# Altium integrated library Microchip PIC32MZ.IntLib: 125 symbols (part 14 of 16)
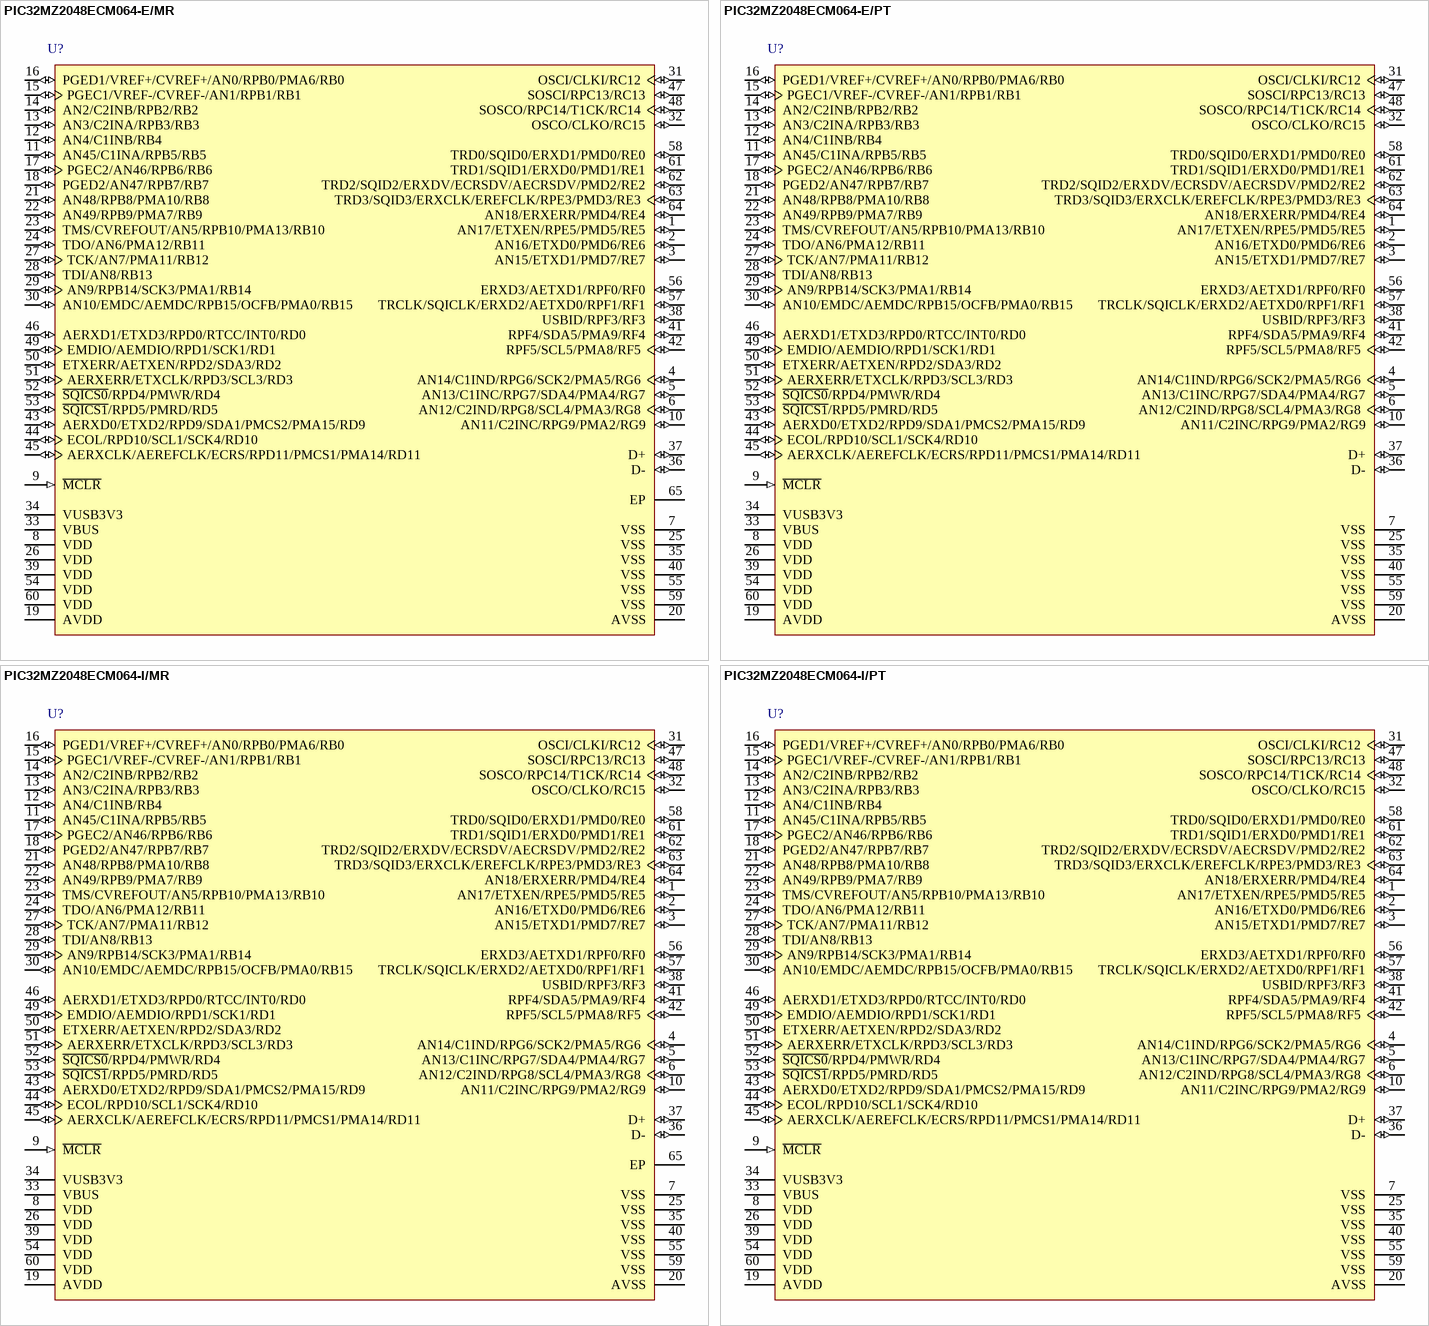
[diagram p65: symbols PIC32MZ2048ECM064-E/MR to PIC32MZ2048ECM064-I/PT]

## PIC32MZ2048ECM064-I/MR
designator U?
32-Bit Microcontroller with Audio and Graphics Interfaces, HS USB, Ethernet, and Advanced Analog, 2048 KB Program Memory, 53 I/O Pins, PMP, Industrial Temperature, 64-Pin QFN (MR64), Tray; Manufacturer: Microchip; PartNumber: PIC32MZ2048ECM064-I/MR; VCC Range: 2.2 to 3.6 V; DatasheetVersion: Rev. B; PackageVersion: C04-149C; PackageReference: QFN-MR64; PackageDescription: 64-Lead Plastic Quad Flat, No Lead Package, 9 x 9 mm Body, 0.5 mm Pitch; Supplier 1: Digi-Key; Supplier Part Number 1: PIC32MZ2048ECM064-I/MR-ND; Packing: Tray; Mounting Technology: Surface Mount; ComponentLink1Description: Manufacturer URL; ComponentLink1URL: http://www.microchip.com/; ComponentLink2Description: Datasheet; ComponentLink2URL: http://ww1.microchip.com/downloads/en/DeviceDoc/60001191B.pdf; ComponentLink3Description: Package Specification; ComponentLink3URL: http://ww1.microchip.com/downloads/en/DeviceDoc/60001191B.pdf
footprint MCHP-QFN-MR64-7150X7150TP_V (QFN, 64-Leads, Body 9x9mm, Pitch 0.5mm, Thermal Pad 7.15X7.15mm)
pins: 1 AN17/ETXEN/RPE5/PMD5/RE5 (io), 2 AN16/ETXD0/PMD6/RE6 (io), 3 AN15/ETXD1/PMD7/RE7 (io), 4 AN14/C1IND/RPG6/SCK2/PMA5/RG6 (io), 5 AN13/C1INC/RPG7/SDA4/PMA4/RG7 (io), 6 AN12/C2IND/RPG8/SCL4/PMA3/RG8 (io), 7 VSS (power) "Ground reference for logic, I/O pins, and USB. This pin must be connected at all times.", 8 VDD (power) "Positive supply for peripheral logic and I/O pins. This pin must be connected at all times.", 9 ~{MCLR} (in) "Master Clear (Reset) input. This pin is an active-low Reset to the device.", 10 AN11/C2INC/RPG9/PMA2/RG9 (io), 11 AN45/C1INA/RPB5/RB5 (io), 12 AN4/C1INB/RB4 (io), 13 AN3/C2INA/RPB3/RB3 (io), 14 AN2/C2INB/RPB2/RB2 (io), 15 PGEC1/VREF-/CVREF-/AN1/RPB1/RB1 (io), 16 PGED1/VREF+/CVREF+/AN0/RPB0/PMA6/RB0 (io), 17 PGEC2/AN46/RPB6/RB6 (io), 18 PGED2/AN47/RPB7/RB7 (io), 19 AVDD (power) "Positive supply for analog modules. This pin must be connected at all times.", 20 AVSS (power) "Ground reference for analog modules. This pin must be connected at all times.", 21 AN48/RPB8/PMA10/RB8 (io), 22 AN49/RPB9/PMA7/RB9 (io), 23 TMS/CVREFOUT/AN5/RPB10/PMA13/RB10 (io), 24 TDO/AN6/PMA12/RB11 (io), 25 VSS (power) "Ground reference for logic, I/O pins, and USB. This pin must be connected at all times.", 26 VDD (power) "Positive supply for peripheral logic and I/O pins. This pin must be connected at all times.", 27 TCK/AN7/PMA11/RB12 (io), 28 TDI/AN8/RB13 (io), 29 AN9/RPB14/SCK3/PMA1/RB14 (io), 30 AN10/EMDC/AEMDC/RPB15/OCFB/PMA0/RB15 (io), 31 OSCI/CLKI/RC12 (io), 32 OSCO/CLKO/RC15 (io), 33 VBUS (power) "USB bus power monitor", 34 VUSB3V3 (power) "USB internal transceiver supply. If the USB module is not used, this pin must be connected to VSS.", 35 VSS (power) "Ground reference for logic, I/O pins, and USB. This pin must be connected at all times.", 36 D- (io) "USB D-", 37 D+ (io) "USB D+", 38 USBID/RPF3/RF3 (io), 39 VDD (power) "Positive supply for peripheral logic and I/O pins. This pin must be connected at all times.", 40 VSS (power) "Ground reference for logic, I/O pins, and USB. This pin must be connected at all times.", 41 RPF4/SDA5/PMA9/RF4 (io), 42 RPF5/SCL5/PMA8/RF5 (io), 43 AERXD0/ETXD2/RPD9/SDA1/PMCS2/PMA15/RD9 (io), 44 ECOL/RPD10/SCL1/SCK4/RD10 (io), 45 AERXCLK/AEREFCLK/ECRS/RPD11/PMCS1/PMA14/RD11 (io), 46 AERXD1/ETXD3/RPD0/RTCC/INT0/RD0 (io), 47 SOSCI/RPC13/RC13 (io), 48 SOSCO/RPC14/T1CK/RC14 (io), 49 EMDIO/AEMDIO/RPD1/SCK1/RD1 (io), 50 ETXERR/AETXEN/RPD2/SDA3/RD2 (io), 51 AERXERR/ETXCLK/RPD3/SCL3/RD3 (io), 52 ~{SQICS0}/RPD4/PMWR/RD4 (io), 53 ~{SQICS1}/RPD5/PMRD/RD5 (io), 54 VDD (power) "Positive supply for peripheral logic and I/O pins. This pin must be connected at all times.", 55 VSS (power) "Ground reference for logic, I/O pins, and USB. This pin must be connected at all times.", 56 ERXD3/AETXD1/RPF0/RF0 (io), 57 TRCLK/SQICLK/ERXD2/AETXD0/RPF1/RF1 (io), 58 TRD0/SQID0/ERXD1/PMD0/RE0 (io), 59 VSS (power) "Ground reference for logic, I/O pins, and USB. This pin must be connected at all times.", 60 VDD (power) "Positive supply for peripheral logic and I/O pins. This pin must be connected at all times.", 61 TRD1/SQID1/ERXD0/PMD1/RE1 (io), 62 TRD2/SQID2/ERXDV/ECRSDV/AECRSDV/PMD2/RE2 (io), 63 TRD3/SQID3/ERXCLK/EREFCLK/RPE3/PMD3/RE3 (io), 64 AN18/ERXERR/PMD4/RE4 (io), 65 EP (power)

## PIC32MZ2048ECM064-I/PT
designator U?
32-Bit Microcontroller with Audio and Graphics Interfaces, HS USB, Ethernet, and Advanced Analog, 2048 KB Program Memory, 53 I/O Pins, PMP, Industrial Temperature, 64-Pin QFP (PT64), Tray; Manufacturer: Microchip; PartNumber: PIC32MZ2048ECM064-I/PT; VCC Range: 2.2 to 3.6 V; DatasheetVersion: Rev. B; PackageVersion: C04-085B; PackageReference: QFP-PT64; PackageDescription: 64-Lead Plastic Thin Quad Flatpack, 10 x 10 mm Body, 0.5 mm Pitch; Supplier 1: Digi-Key; Supplier Part Number 1: PIC32MZ2048ECM064-I/PT-ND; Packing: Tray; Mounting Technology: Surface Mount; ComponentLink1Description: Manufacturer URL; ComponentLink1URL: http://www.microchip.com/; ComponentLink2Description: Datasheet; ComponentLink2URL: http://ww1.microchip.com/downloads/en/DeviceDoc/60001191B.pdf; ComponentLink3Description: Package Specification; ComponentLink3URL: http://ww1.microchip.com/downloads/en/DeviceDoc/60001191B.pdf
footprint MCHP-QFP-PT64_V (QFP, 64-Leads, Body 10x10mm, Pitch 0.5mm)
pins: 1 AN17/ETXEN/RPE5/PMD5/RE5 (io), 2 AN16/ETXD0/PMD6/RE6 (io), 3 AN15/ETXD1/PMD7/RE7 (io), 4 AN14/C1IND/RPG6/SCK2/PMA5/RG6 (io), 5 AN13/C1INC/RPG7/SDA4/PMA4/RG7 (io), 6 AN12/C2IND/RPG8/SCL4/PMA3/RG8 (io), 7 VSS (power) "Ground reference for logic, I/O pins, and USB. This pin must be connected at all times.", 8 VDD (power) "Positive supply for peripheral logic and I/O pins. This pin must be connected at all times.", 9 ~{MCLR} (in) "Master Clear (Reset) input. This pin is an active-low Reset to the device.", 10 AN11/C2INC/RPG9/PMA2/RG9 (io), 11 AN45/C1INA/RPB5/RB5 (io), 12 AN4/C1INB/RB4 (io), 13 AN3/C2INA/RPB3/RB3 (io), 14 AN2/C2INB/RPB2/RB2 (io), 15 PGEC1/VREF-/CVREF-/AN1/RPB1/RB1 (io), 16 PGED1/VREF+/CVREF+/AN0/RPB0/PMA6/RB0 (io), 17 PGEC2/AN46/RPB6/RB6 (io), 18 PGED2/AN47/RPB7/RB7 (io), 19 AVDD (power) "Positive supply for analog modules. This pin must be connected at all times.", 20 AVSS (power) "Ground reference for analog modules. This pin must be connected at all times.", 21 AN48/RPB8/PMA10/RB8 (io), 22 AN49/RPB9/PMA7/RB9 (io), 23 TMS/CVREFOUT/AN5/RPB10/PMA13/RB10 (io), 24 TDO/AN6/PMA12/RB11 (io), 25 VSS (power) "Ground reference for logic, I/O pins, and USB. This pin must be connected at all times.", 26 VDD (power) "Positive supply for peripheral logic and I/O pins. This pin must be connected at all times.", 27 TCK/AN7/PMA11/RB12 (io), 28 TDI/AN8/RB13 (io), 29 AN9/RPB14/SCK3/PMA1/RB14 (io), 30 AN10/EMDC/AEMDC/RPB15/OCFB/PMA0/RB15 (io), 31 OSCI/CLKI/RC12 (io), 32 OSCO/CLKO/RC15 (io), 33 VBUS (power) "USB bus power monitor", 34 VUSB3V3 (power) "USB internal transceiver supply. If the USB module is not used, this pin must be connected to VSS.", 35 VSS (power) "Ground reference for logic, I/O pins, and USB. This pin must be connected at all times.", 36 D- (io) "USB D-", 37 D+ (io) "USB D+", 38 USBID/RPF3/RF3 (io), 39 VDD (power) "Positive supply for peripheral logic and I/O pins. This pin must be connected at all times.", 40 VSS (power) "Ground reference for logic, I/O pins, and USB. This pin must be connected at all times.", 41 RPF4/SDA5/PMA9/RF4 (io), 42 RPF5/SCL5/PMA8/RF5 (io), 43 AERXD0/ETXD2/RPD9/SDA1/PMCS2/PMA15/RD9 (io), 44 ECOL/RPD10/SCL1/SCK4/RD10 (io), 45 AERXCLK/AEREFCLK/ECRS/RPD11/PMCS1/PMA14/RD11 (io), 46 AERXD1/ETXD3/RPD0/RTCC/INT0/RD0 (io), 47 SOSCI/RPC13/RC13 (io), 48 SOSCO/RPC14/T1CK/RC14 (io), 49 EMDIO/AEMDIO/RPD1/SCK1/RD1 (io), 50 ETXERR/AETXEN/RPD2/SDA3/RD2 (io), 51 AERXERR/ETXCLK/RPD3/SCL3/RD3 (io), 52 ~{SQICS0}/RPD4/PMWR/RD4 (io), 53 ~{SQICS1}/RPD5/PMRD/RD5 (io), 54 VDD (power) "Positive supply for peripheral logic and I/O pins. This pin must be connected at all times.", 55 VSS (power) "Ground reference for logic, I/O pins, and USB. This pin must be connected at all times.", 56 ERXD3/AETXD1/RPF0/RF0 (io), 57 TRCLK/SQICLK/ERXD2/AETXD0/RPF1/RF1 (io), 58 TRD0/SQID0/ERXD1/PMD0/RE0 (io), 59 VSS (power) "Ground reference for logic, I/O pins, and USB. This pin must be connected at all times.", 60 VDD (power) "Positive supply for peripheral logic and I/O pins. This pin must be connected at all times.", 61 TRD1/SQID1/ERXD0/PMD1/RE1 (io), 62 TRD2/SQID2/ERXDV/ECRSDV/AECRSDV/PMD2/RE2 (io), 63 TRD3/SQID3/ERXCLK/EREFCLK/RPE3/PMD3/RE3 (io), 64 AN18/ERXERR/PMD4/RE4 (io)

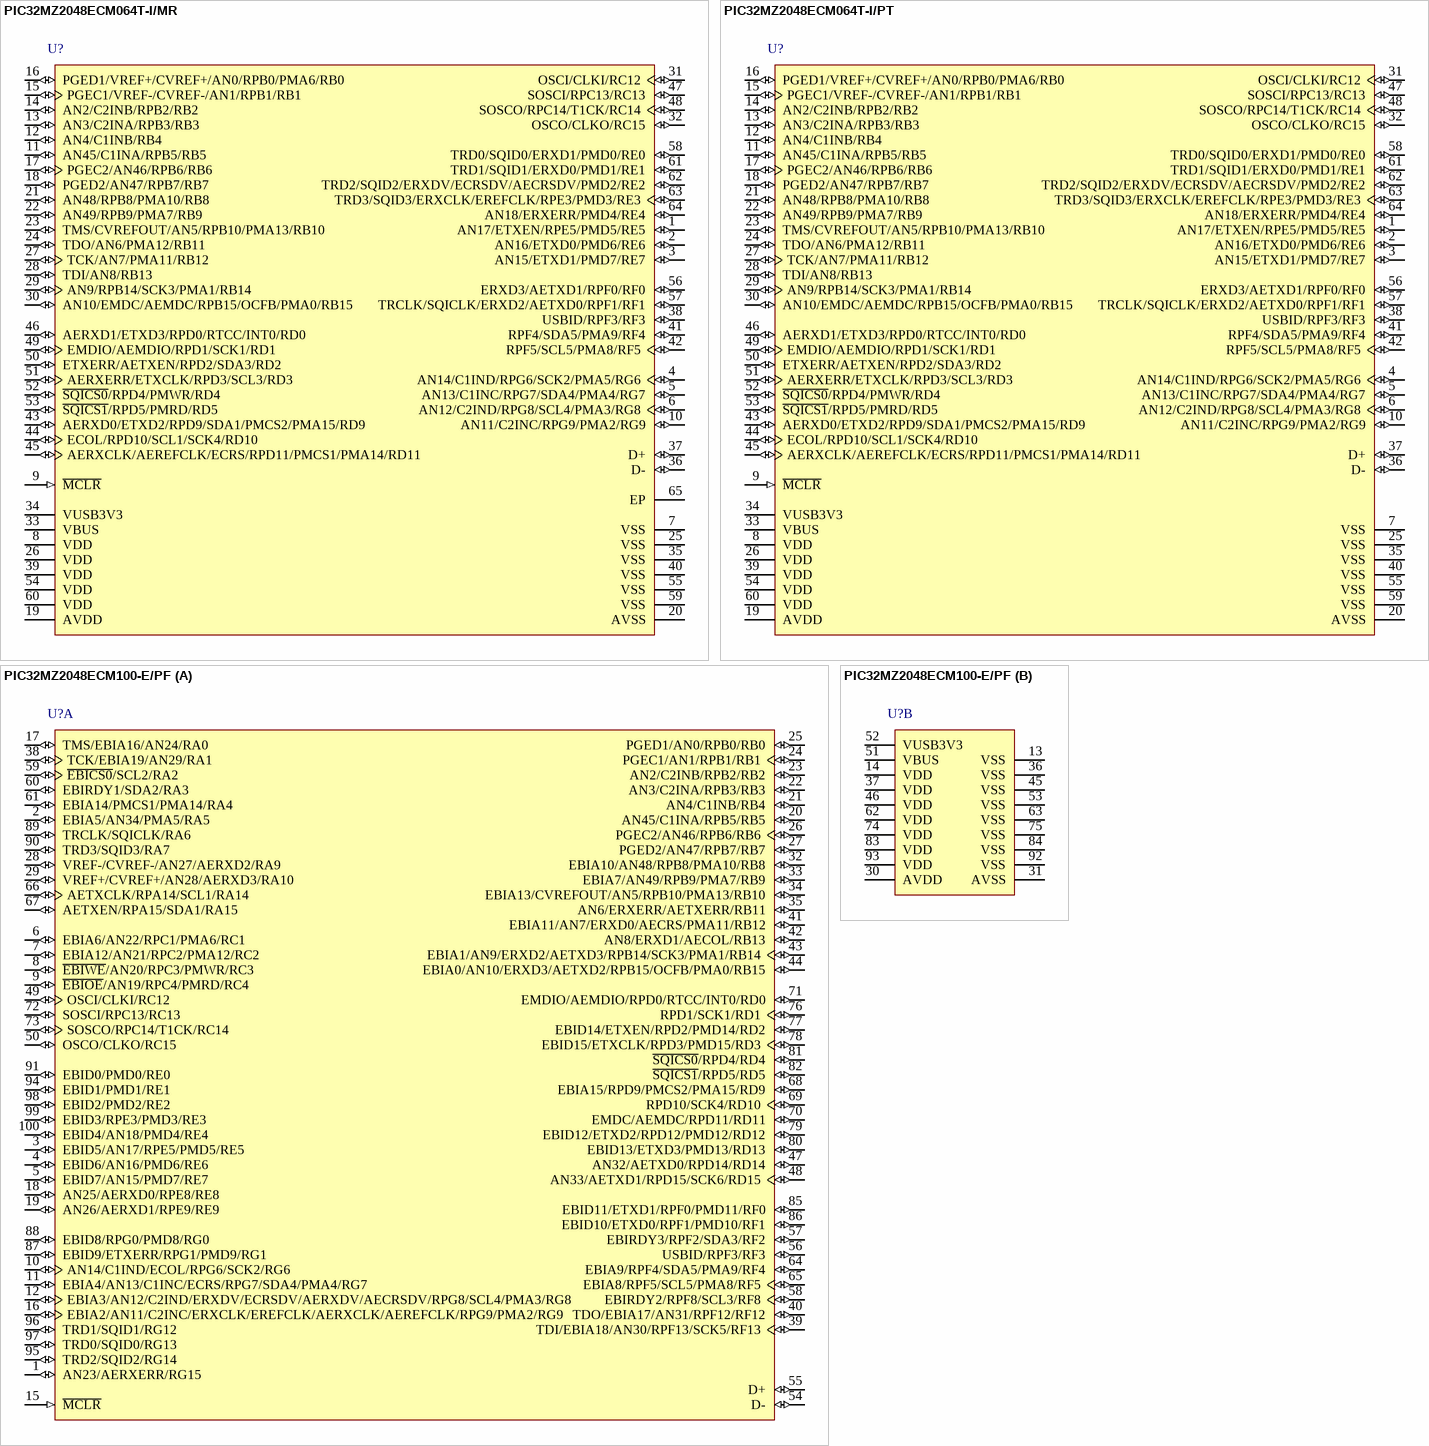
[diagram p45: symbols PIC32MZ2048ECM064T-I/MR to PIC32MZ2048ECM100-E/PF]

## PIC32MZ2048ECM064T-I/MR
designator U?
32-Bit Microcontroller with Audio and Graphics Interfaces, HS USB, Ethernet, and Advanced Analog, 2048 KB Program Memory, 53 I/O Pins, PMP, Industrial Temperature, 64-Pin QFN (MR64), Tape and Reel; Manufacturer: Microchip; PartNumber: PIC32MZ2048ECM064T-I/MR; VCC Range: 2.2 to 3.6 V; DatasheetVersion: Rev. B; PackageVersion: C04-149C; PackageReference: QFN-MR64; PackageDescription: 64-Lead Plastic Quad Flat, No Lead Package, 9 x 9 mm Body, 0.5 mm Pitch; Supplier 1: Newark; Supplier Part Number 1: 17X9372; Packing: Tape and Reel; Mounting Technology: Surface Mount; ComponentLink1Description: Manufacturer URL; ComponentLink1URL: http://www.microchip.com/; ComponentLink2Description: Datasheet; ComponentLink2URL: http://ww1.microchip.com/downloads/en/DeviceDoc/60001191B.pdf; ComponentLink3Description: Package Specification; ComponentLink3URL: http://ww1.microchip.com/downloads/en/DeviceDoc/60001191B.pdf
footprint MCHP-QFN-MR64-7150X7150TP_V (QFN, 64-Leads, Body 9x9mm, Pitch 0.5mm, Thermal Pad 7.15X7.15mm)
pins: 1 AN17/ETXEN/RPE5/PMD5/RE5 (io), 2 AN16/ETXD0/PMD6/RE6 (io), 3 AN15/ETXD1/PMD7/RE7 (io), 4 AN14/C1IND/RPG6/SCK2/PMA5/RG6 (io), 5 AN13/C1INC/RPG7/SDA4/PMA4/RG7 (io), 6 AN12/C2IND/RPG8/SCL4/PMA3/RG8 (io), 7 VSS (power) "Ground reference for logic, I/O pins, and USB. This pin must be connected at all times.", 8 VDD (power) "Positive supply for peripheral logic and I/O pins. This pin must be connected at all times.", 9 ~{MCLR} (in) "Master Clear (Reset) input. This pin is an active-low Reset to the device.", 10 AN11/C2INC/RPG9/PMA2/RG9 (io), 11 AN45/C1INA/RPB5/RB5 (io), 12 AN4/C1INB/RB4 (io), 13 AN3/C2INA/RPB3/RB3 (io), 14 AN2/C2INB/RPB2/RB2 (io), 15 PGEC1/VREF-/CVREF-/AN1/RPB1/RB1 (io), 16 PGED1/VREF+/CVREF+/AN0/RPB0/PMA6/RB0 (io), 17 PGEC2/AN46/RPB6/RB6 (io), 18 PGED2/AN47/RPB7/RB7 (io), 19 AVDD (power) "Positive supply for analog modules. This pin must be connected at all times.", 20 AVSS (power) "Ground reference for analog modules. This pin must be connected at all times.", 21 AN48/RPB8/PMA10/RB8 (io), 22 AN49/RPB9/PMA7/RB9 (io), 23 TMS/CVREFOUT/AN5/RPB10/PMA13/RB10 (io), 24 TDO/AN6/PMA12/RB11 (io), 25 VSS (power) "Ground reference for logic, I/O pins, and USB. This pin must be connected at all times.", 26 VDD (power) "Positive supply for peripheral logic and I/O pins. This pin must be connected at all times.", 27 TCK/AN7/PMA11/RB12 (io), 28 TDI/AN8/RB13 (io), 29 AN9/RPB14/SCK3/PMA1/RB14 (io), 30 AN10/EMDC/AEMDC/RPB15/OCFB/PMA0/RB15 (io), 31 OSCI/CLKI/RC12 (io), 32 OSCO/CLKO/RC15 (io), 33 VBUS (power) "USB bus power monitor", 34 VUSB3V3 (power) "USB internal transceiver supply. If the USB module is not used, this pin must be connected to VSS.", 35 VSS (power) "Ground reference for logic, I/O pins, and USB. This pin must be connected at all times.", 36 D- (io) "USB D-", 37 D+ (io) "USB D+", 38 USBID/RPF3/RF3 (io), 39 VDD (power) "Positive supply for peripheral logic and I/O pins. This pin must be connected at all times.", 40 VSS (power) "Ground reference for logic, I/O pins, and USB. This pin must be connected at all times.", 41 RPF4/SDA5/PMA9/RF4 (io), 42 RPF5/SCL5/PMA8/RF5 (io), 43 AERXD0/ETXD2/RPD9/SDA1/PMCS2/PMA15/RD9 (io), 44 ECOL/RPD10/SCL1/SCK4/RD10 (io), 45 AERXCLK/AEREFCLK/ECRS/RPD11/PMCS1/PMA14/RD11 (io), 46 AERXD1/ETXD3/RPD0/RTCC/INT0/RD0 (io), 47 SOSCI/RPC13/RC13 (io), 48 SOSCO/RPC14/T1CK/RC14 (io), 49 EMDIO/AEMDIO/RPD1/SCK1/RD1 (io), 50 ETXERR/AETXEN/RPD2/SDA3/RD2 (io), 51 AERXERR/ETXCLK/RPD3/SCL3/RD3 (io), 52 ~{SQICS0}/RPD4/PMWR/RD4 (io), 53 ~{SQICS1}/RPD5/PMRD/RD5 (io), 54 VDD (power) "Positive supply for peripheral logic and I/O pins. This pin must be connected at all times.", 55 VSS (power) "Ground reference for logic, I/O pins, and USB. This pin must be connected at all times.", 56 ERXD3/AETXD1/RPF0/RF0 (io), 57 TRCLK/SQICLK/ERXD2/AETXD0/RPF1/RF1 (io), 58 TRD0/SQID0/ERXD1/PMD0/RE0 (io), 59 VSS (power) "Ground reference for logic, I/O pins, and USB. This pin must be connected at all times.", 60 VDD (power) "Positive supply for peripheral logic and I/O pins. This pin must be connected at all times.", 61 TRD1/SQID1/ERXD0/PMD1/RE1 (io), 62 TRD2/SQID2/ERXDV/ECRSDV/AECRSDV/PMD2/RE2 (io), 63 TRD3/SQID3/ERXCLK/EREFCLK/RPE3/PMD3/RE3 (io), 64 AN18/ERXERR/PMD4/RE4 (io), 65 EP (power)

## PIC32MZ2048ECM064T-I/PT
designator U?
32-Bit Microcontroller with Audio and Graphics Interfaces, HS USB, Ethernet, and Advanced Analog, 2048 KB Program Memory, 53 I/O Pins, PMP, Industrial Temperature, 64-Pin QFP (PT64), Tape and Reel; Manufacturer: Microchip; PartNumber: PIC32MZ2048ECM064T-I/PT; VCC Range: 2.2 to 3.6 V; DatasheetVersion: Rev. B; PackageVersion: C04-085B; PackageReference: QFP-PT64; PackageDescription: 64-Lead Plastic Thin Quad Flatpack, 10 x 10 mm Body, 0.5 mm Pitch; Supplier 1: Newark; Supplier Part Number 1: 17X9373; Packing: Tape and Reel; Mounting Technology: Surface Mount; ComponentLink1Description: Manufacturer URL; ComponentLink1URL: http://www.microchip.com/; ComponentLink2Description: Datasheet; ComponentLink2URL: http://ww1.microchip.com/downloads/en/DeviceDoc/60001191B.pdf; ComponentLink3Description: Package Specification; ComponentLink3URL: http://ww1.microchip.com/downloads/en/DeviceDoc/60001191B.pdf
footprint MCHP-QFP-PT64_V (QFP, 64-Leads, Body 10x10mm, Pitch 0.5mm)
pins: 1 AN17/ETXEN/RPE5/PMD5/RE5 (io), 2 AN16/ETXD0/PMD6/RE6 (io), 3 AN15/ETXD1/PMD7/RE7 (io), 4 AN14/C1IND/RPG6/SCK2/PMA5/RG6 (io), 5 AN13/C1INC/RPG7/SDA4/PMA4/RG7 (io), 6 AN12/C2IND/RPG8/SCL4/PMA3/RG8 (io), 7 VSS (power) "Ground reference for logic, I/O pins, and USB. This pin must be connected at all times.", 8 VDD (power) "Positive supply for peripheral logic and I/O pins. This pin must be connected at all times.", 9 ~{MCLR} (in) "Master Clear (Reset) input. This pin is an active-low Reset to the device.", 10 AN11/C2INC/RPG9/PMA2/RG9 (io), 11 AN45/C1INA/RPB5/RB5 (io), 12 AN4/C1INB/RB4 (io), 13 AN3/C2INA/RPB3/RB3 (io), 14 AN2/C2INB/RPB2/RB2 (io), 15 PGEC1/VREF-/CVREF-/AN1/RPB1/RB1 (io), 16 PGED1/VREF+/CVREF+/AN0/RPB0/PMA6/RB0 (io), 17 PGEC2/AN46/RPB6/RB6 (io), 18 PGED2/AN47/RPB7/RB7 (io), 19 AVDD (power) "Positive supply for analog modules. This pin must be connected at all times.", 20 AVSS (power) "Ground reference for analog modules. This pin must be connected at all times.", 21 AN48/RPB8/PMA10/RB8 (io), 22 AN49/RPB9/PMA7/RB9 (io), 23 TMS/CVREFOUT/AN5/RPB10/PMA13/RB10 (io), 24 TDO/AN6/PMA12/RB11 (io), 25 VSS (power) "Ground reference for logic, I/O pins, and USB. This pin must be connected at all times.", 26 VDD (power) "Positive supply for peripheral logic and I/O pins. This pin must be connected at all times.", 27 TCK/AN7/PMA11/RB12 (io), 28 TDI/AN8/RB13 (io), 29 AN9/RPB14/SCK3/PMA1/RB14 (io), 30 AN10/EMDC/AEMDC/RPB15/OCFB/PMA0/RB15 (io), 31 OSCI/CLKI/RC12 (io), 32 OSCO/CLKO/RC15 (io), 33 VBUS (power) "USB bus power monitor", 34 VUSB3V3 (power) "USB internal transceiver supply. If the USB module is not used, this pin must be connected to VSS.", 35 VSS (power) "Ground reference for logic, I/O pins, and USB. This pin must be connected at all times.", 36 D- (io) "USB D-", 37 D+ (io) "USB D+", 38 USBID/RPF3/RF3 (io), 39 VDD (power) "Positive supply for peripheral logic and I/O pins. This pin must be connected at all times.", 40 VSS (power) "Ground reference for logic, I/O pins, and USB. This pin must be connected at all times.", 41 RPF4/SDA5/PMA9/RF4 (io), 42 RPF5/SCL5/PMA8/RF5 (io), 43 AERXD0/ETXD2/RPD9/SDA1/PMCS2/PMA15/RD9 (io), 44 ECOL/RPD10/SCL1/SCK4/RD10 (io), 45 AERXCLK/AEREFCLK/ECRS/RPD11/PMCS1/PMA14/RD11 (io), 46 AERXD1/ETXD3/RPD0/RTCC/INT0/RD0 (io), 47 SOSCI/RPC13/RC13 (io), 48 SOSCO/RPC14/T1CK/RC14 (io), 49 EMDIO/AEMDIO/RPD1/SCK1/RD1 (io), 50 ETXERR/AETXEN/RPD2/SDA3/RD2 (io), 51 AERXERR/ETXCLK/RPD3/SCL3/RD3 (io), 52 ~{SQICS0}/RPD4/PMWR/RD4 (io), 53 ~{SQICS1}/RPD5/PMRD/RD5 (io), 54 VDD (power) "Positive supply for peripheral logic and I/O pins. This pin must be connected at all times.", 55 VSS (power) "Ground reference for logic, I/O pins, and USB. This pin must be connected at all times.", 56 ERXD3/AETXD1/RPF0/RF0 (io), 57 TRCLK/SQICLK/ERXD2/AETXD0/RPF1/RF1 (io), 58 TRD0/SQID0/ERXD1/PMD0/RE0 (io), 59 VSS (power) "Ground reference for logic, I/O pins, and USB. This pin must be connected at all times.", 60 VDD (power) "Positive supply for peripheral logic and I/O pins. This pin must be connected at all times.", 61 TRD1/SQID1/ERXD0/PMD1/RE1 (io), 62 TRD2/SQID2/ERXDV/ECRSDV/AECRSDV/PMD2/RE2 (io), 63 TRD3/SQID3/ERXCLK/EREFCLK/RPE3/PMD3/RE3 (io), 64 AN18/ERXERR/PMD4/RE4 (io)

## PIC32MZ2048ECM100-E/PF
designator U?
32-Bit Microcontroller with Audio and Graphics Interfaces, HS USB, Ethernet, and Advanced Analog, 2048 KB Program Memory, 78 I/O Pins, PMP, Extended Temperature, 100-Pin TQFP (PF100), Tray; Manufacturer: Microchip; PartNumber: PIC32MZ2048ECM100-E/PF; VCC Range: 2.2 to 3.6 V; DatasheetVersion: Rev. B; PackageVersion: C04-110B, 12/2012; PackageReference: TQFP-PF100; PackageDescription: 100-Lead Thin Plastic Quad Flat Pack, 14 x 14 mm Body, 0.5 mm Pitch; Supplier 1: Newark; Supplier Part Number 1: 17X9374; Packing: Tray; Mounting Technology: Surface Mount; ComponentLink1Description: Manufacturer URL; ComponentLink1URL: http://www.microchip.com/; ComponentLink2Description: Datasheet; ComponentLink2URL: http://ww1.microchip.com/downloads/en/DeviceDoc/60001191B.pdf; ComponentLink3Description: Package Specification; ComponentLink3URL: http://www.microchip.com/stellent/groups/techpub_sg/documents/packagingspec/en012702.pdf
footprint MCHP-TQFP-PF100_N (QFP, 100-Leads, Body 14x14mm, Pitch 0.5mm, IPC Medium Density)
footprint MCHP-TQFP-PF100_L (QFP, 100-Leads, Body 14x14mm, Pitch 0.5mm, IPC High Density)
footprint MCHP-TQFP-PF100_M (QFP, 100-Leads, Body 14x14mm, Pitch 0.5mm, IPC Low Density)
part A pins: 1 AN23/AERXERR/RG15 (io), 2 EBIA5/AN34/PMA5/RA5 (io), 3 EBID5/AN17/RPE5/PMD5/RE5 (io), 4 EBID6/AN16/PMD6/RE6 (io), 5 EBID7/AN15/PMD7/RE7 (io), 6 EBIA6/AN22/RPC1/PMA6/RC1 (io), 7 EBIA12/AN21/RPC2/PMA12/RC2 (io), 8 ~{EBIWE}/AN20/RPC3/PMWR/RC3 (io), 9 ~{EBIOE}/AN19/RPC4/PMRD/RC4 (io), 10 AN14/C1IND/ECOL/RPG6/SCK2/RG6 (io), 11 EBIA4/AN13/C1INC/ECRS/RPG7/SDA4/PMA4/RG7 (io), 12 EBIA3/AN12/C2IND/ERXDV/ECRSDV/AERXDV/AECRSDV/RPG8/SCL4/PMA3/RG8 (io), 15 ~{MCLR} (in) "Master Clear (Reset) input. This pin is an active-low  Reset to the device.", 16 EBIA2/AN11/C2INC/ERXCLK/EREFCLK/AERXCLK/AEREFCLK/RPG9/PMA2/RG9 (io), 17 TMS/EBIA16/AN24/RA0 (io), 18 AN25/AERXD0/RPE8/RE8 (io), 19 AN26/AERXD1/RPE9/RE9 (io), 20 AN45/C1INA/RPB5/RB5 (io), 21 AN4/C1INB/RB4 (io), 22 AN3/C2INA/RPB3/RB3 (io), 23 AN2/C2INB/RPB2/RB2 (io), 24 PGEC1/AN1/RPB1/RB1 (io), 25 PGED1/AN0/RPB0/RB0 (io), 26 PGEC2/AN46/RPB6/RB6 (io), 27 PGED2/AN47/RPB7/RB7 (io), 28 VREF-/CVREF-/AN27/AERXD2/RA9 (io), 29 VREF+/CVREF+/AN28/AERXD3/RA10 (io), 32 EBIA10/AN48/RPB8/PMA10/RB8 (io), 33 EBIA7/AN49/RPB9/PMA7/RB9 (io), 34 EBIA13/CVREFOUT/AN5/RPB10/PMA13/RB10 (io), 35 AN6/ERXERR/AETXERR/RB11 (io), 38 TCK/EBIA19/AN29/RA1 (io), 39 TDI/EBIA18/AN30/RPF13/SCK5/RF13 (io), 40 TDO/EBIA17/AN31/RPF12/RF12 (io), 41 EBIA11/AN7/ERXD0/AECRS/PMA11/RB12 (io), 42 AN8/ERXD1/AECOL/RB13 (io), 43 EBIA1/AN9/ERXD2/AETXD3/RPB14/SCK3/PMA1/RB14 (io), 44 EBIA0/AN10/ERXD3/AETXD2/RPB15/OCFB/PMA0/RB15 (io), 47 AN32/AETXD0/RPD14/RD14 (io), 48 AN33/AETXD1/RPD15/SCK6/RD15 (io), 49 OSCI/CLKI/RC12 (io), 50 OSCO/CLKO/RC15 (io), 54 D- (io) "USB D-", 55 D+ (io) "USB D+", 56 USBID/RPF3/RF3 (io), 57 EBIRDY3/RPF2/SDA3/RF2 (io), 58 EBIRDY2/RPF8/SCL3/RF8 (io), 59 ~{EBICS0}/SCL2/RA2 (io), 60 EBIRDY1/SDA2/RA3 (io), 61 EBIA14/PMCS1/PMA14/RA4 (io), 64 EBIA9/RPF4/SDA5/PMA9/RF4 (io), 65 EBIA8/RPF5/SCL5/PMA8/RF5 (io), 66 AETXCLK/RPA14/SCL1/RA14 (io), 67 AETXEN/RPA15/SDA1/RA15 (io), 68 EBIA15/RPD9/PMCS2/PMA15/RD9 (io), 69 RPD10/SCK4/RD10 (io), 70 EMDC/AEMDC/RPD11/RD11 (io), 71 EMDIO/AEMDIO/RPD0/RTCC/INT0/RD0 (io), 72 SOSCI/RPC13/RC13 (io), 73 SOSCO/RPC14/T1CK/RC14 (io), 76 RPD1/SCK1/RD1 (io), 77 EBID14/ETXEN/RPD2/PMD14/RD2 (io), 78 EBID15/ETXCLK/RPD3/PMD15/RD3 (io), 79 EBID12/ETXD2/RPD12/PMD12/RD12 (io), 80 EBID13/ETXD3/PMD13/RD13 (io), 81 ~{SQICS0}/RPD4/RD4 (io), 82 ~{SQICS1}/RPD5/RD5 (io), 85 EBID11/ETXD1/RPF0/PMD11/RF0 (io), 86 EBID10/ETXD0/RPF1/PMD10/RF1 (io), 87 EBID9/ETXERR/RPG1/PMD9/RG1 (io), 88 EBID8/RPG0/PMD8/RG0 (io), 89 TRCLK/SQICLK/RA6 (io), 90 TRD3/SQID3/RA7 (io), 91 EBID0/PMD0/RE0 (io), 94 EBID1/PMD1/RE1 (io), 95 TRD2/SQID2/RG14 (io), 96 TRD1/SQID1/RG12 (io), 97 TRD0/SQID0/RG13 (io), 98 EBID2/PMD2/RE2 (io), 99 EBID3/RPE3/PMD3/RE3 (io), 100 EBID4/AN18/PMD4/RE4 (io)
part B pins: 13 VSS (power) "Ground reference for logic, I/O pins, and USB. This pin  must be connected at all times.", 14 VDD (power) "Positive supply for peripheral logic and I/O pins. This  pin must be connected at all times.", 30 AVDD (power) "Positive supply for analog modules. This pin must be  connected at all times.", 31 AVSS (power) "Ground reference for analog modules. This pin must  be connected at all times", 36 VSS (power) "Ground reference for logic, I/O pins, and USB. This pin  must be connected at all times.", 37 VDD (power) "Positive supply for analog modules. This pin must be  connected at all times.", 45 VSS (power) "Ground reference for logic, I/O pins, and USB. This pin  must be connected at all times.", 46 VDD (power) "Positive supply for analog modules. This pin must be  connected at all times.", 51 VBUS (power) "USB bus power monitor", 52 VUSB3V3 (power) "USB internal transceiver supply. If the USB module is  not used, this pin must be connected to VSS.", 53 VSS (power) "Ground reference for logic, I/O pins, and USB. This pin  must be connected at all times.", 62 VDD (power) "Positive supply for analog modules. This pin must be  connected at all times.", 63 VSS (power) "Ground reference for logic, I/O pins, and USB. This pin  must be connected at all times.", 74 VDD (power) "Positive supply for analog modules. This pin must be  connected at all times.", 75 VSS (power) "Ground reference for logic, I/O pins, and USB. This pin  must be connected at all times.", 83 VDD (power) "Positive supply for analog modules. This pin must be  connected at all times.", 84 VSS (power) "Ground reference for logic, I/O pins, and USB. This pin  must be connected at all times.", 92 VSS (power) "Ground reference for logic, I/O pins, and USB. This pin  must be connected at all times.", 93 VDD (power) "Positive supply for analog modules. This pin must be  connected at all times."

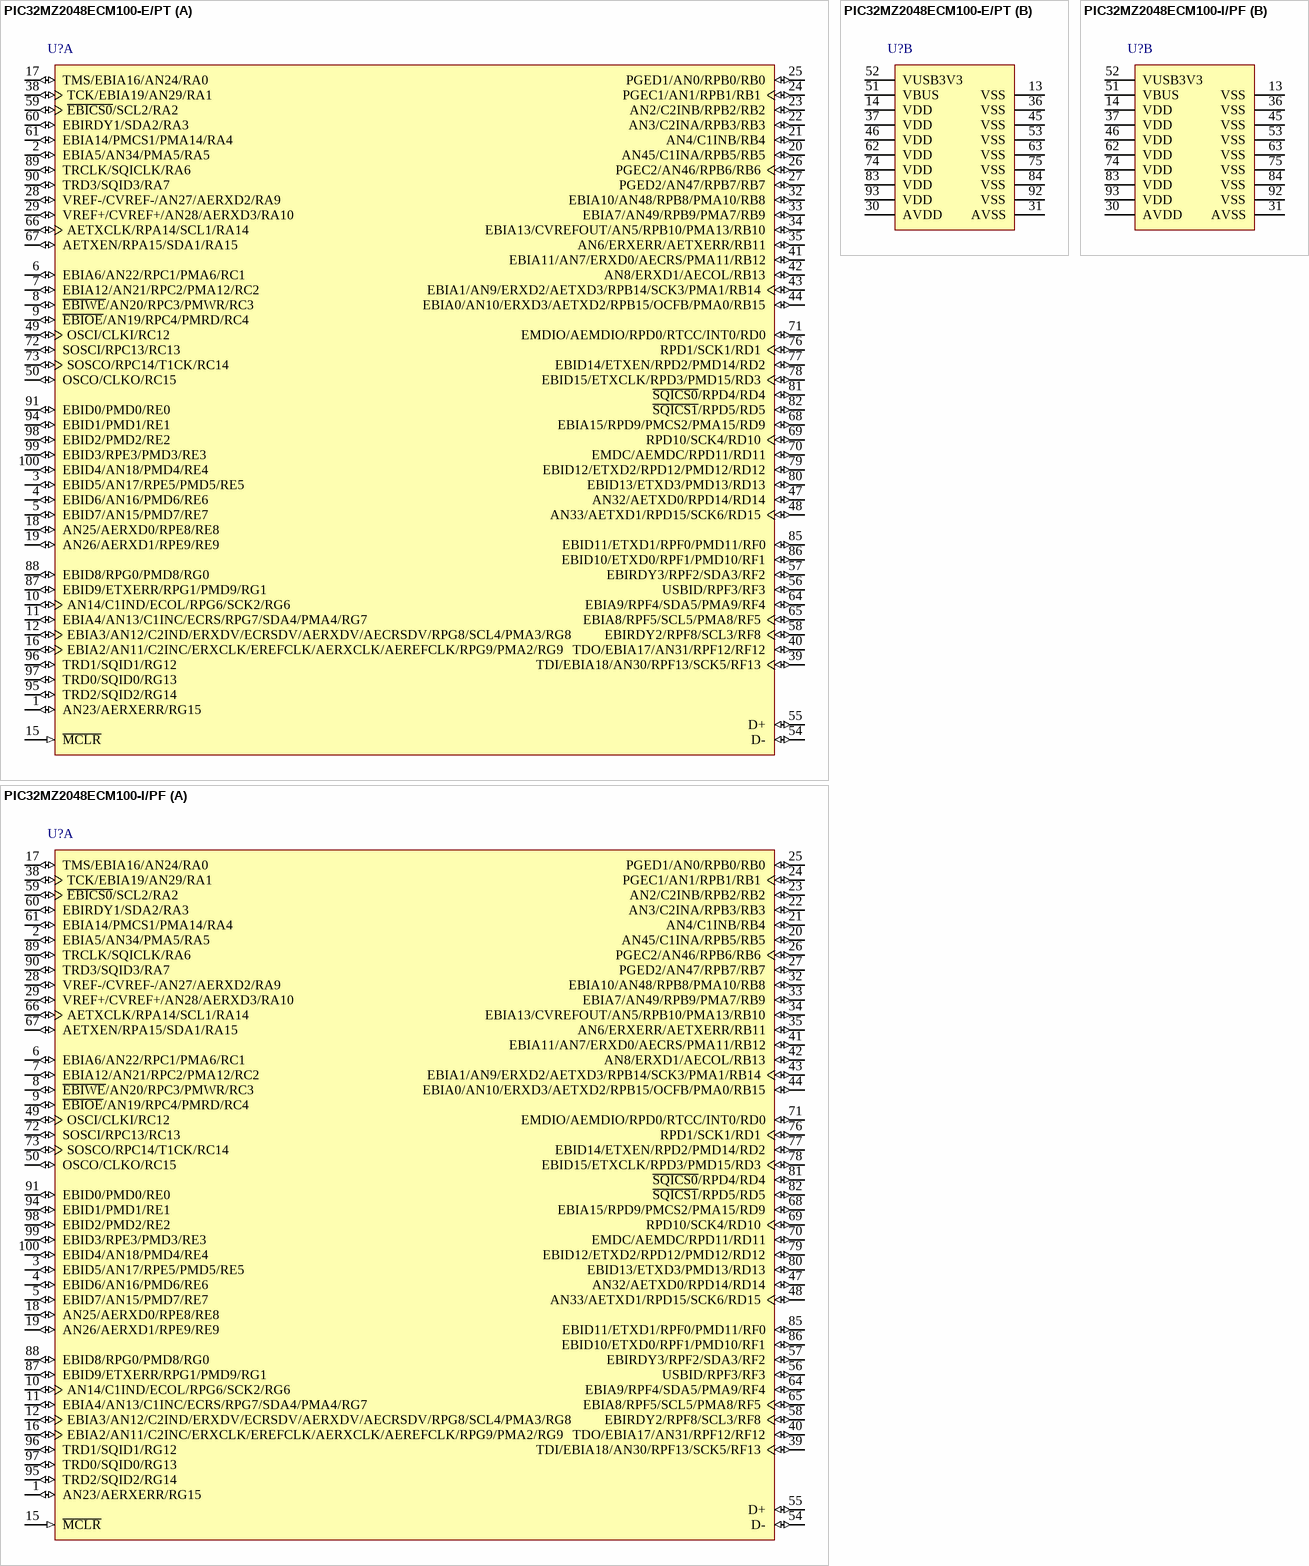
[diagram p46: symbols PIC32MZ2048ECM100-E/PT to PIC32MZ2048ECM100-I/PF]

## PIC32MZ2048ECM100-E/PT
designator U?
32-Bit Microcontroller with Audio and Graphics Interfaces, HS USB, Ethernet, and Advanced Analog, 2048 KB Program Memory, 78 I/O Pins, PMP, Extended Temperature, 100-Pin TQFP (PT100), Tray; Manufacturer: Microchip; PartNumber: PIC32MZ2048ECM100-E/PT; VCC Range: 2.2 to 3.6 V; DatasheetVersion: Rev. B; PackageVersion: C04-100B, 12/2012; PackageReference: TQFP-PT100; PackageDescription: 100-Lead Plastic Thin Quad Flatpack, 12 x 12 mm Body, 0.4 mm Pitch; Supplier 1: Newark; Supplier Part Number 1: 17X9375; Packing: Tray; Mounting Technology: Surface Mount; ComponentLink1Description: Manufacturer URL; ComponentLink1URL: http://www.microchip.com/; ComponentLink2Description: Datasheet; ComponentLink2URL: http://ww1.microchip.com/downloads/en/DeviceDoc/60001191B.pdf; ComponentLink3Description: Package Specification; ComponentLink3URL: http://www.microchip.com/stellent/groups/techpub_sg/documents/packagingspec/en012702.pdf
footprint MCHP-TQFP-PT100_N (QFP, 100-Leads, Body 12x12mm, Pitch 0.4mm, IPC Medium Density)
footprint MCHP-TQFP-PT100_L (QFP, 100-Leads, Body 12x12mm, Pitch 0.4mm, IPC High Density)
footprint MCHP-TQFP-PT100_M (TQFP, 100-Leads, Body 12x12mm, Pitch 0.4mm, IPC Low Density)
part A pins: 1 AN23/AERXERR/RG15 (io), 2 EBIA5/AN34/PMA5/RA5 (io), 3 EBID5/AN17/RPE5/PMD5/RE5 (io), 4 EBID6/AN16/PMD6/RE6 (io), 5 EBID7/AN15/PMD7/RE7 (io), 6 EBIA6/AN22/RPC1/PMA6/RC1 (io), 7 EBIA12/AN21/RPC2/PMA12/RC2 (io), 8 ~{EBIWE}/AN20/RPC3/PMWR/RC3 (io), 9 ~{EBIOE}/AN19/RPC4/PMRD/RC4 (io), 10 AN14/C1IND/ECOL/RPG6/SCK2/RG6 (io), 11 EBIA4/AN13/C1INC/ECRS/RPG7/SDA4/PMA4/RG7 (io), 12 EBIA3/AN12/C2IND/ERXDV/ECRSDV/AERXDV/AECRSDV/RPG8/SCL4/PMA3/RG8 (io), 15 ~{MCLR} (in) "Master Clear (Reset) input. This pin is an active-low  Reset to the device.", 16 EBIA2/AN11/C2INC/ERXCLK/EREFCLK/AERXCLK/AEREFCLK/RPG9/PMA2/RG9 (io), 17 TMS/EBIA16/AN24/RA0 (io), 18 AN25/AERXD0/RPE8/RE8 (io), 19 AN26/AERXD1/RPE9/RE9 (io), 20 AN45/C1INA/RPB5/RB5 (io), 21 AN4/C1INB/RB4 (io), 22 AN3/C2INA/RPB3/RB3 (io), 23 AN2/C2INB/RPB2/RB2 (io), 24 PGEC1/AN1/RPB1/RB1 (io), 25 PGED1/AN0/RPB0/RB0 (io), 26 PGEC2/AN46/RPB6/RB6 (io), 27 PGED2/AN47/RPB7/RB7 (io), 28 VREF-/CVREF-/AN27/AERXD2/RA9 (io), 29 VREF+/CVREF+/AN28/AERXD3/RA10 (io), 32 EBIA10/AN48/RPB8/PMA10/RB8 (io), 33 EBIA7/AN49/RPB9/PMA7/RB9 (io), 34 EBIA13/CVREFOUT/AN5/RPB10/PMA13/RB10 (io), 35 AN6/ERXERR/AETXERR/RB11 (io), 38 TCK/EBIA19/AN29/RA1 (io), 39 TDI/EBIA18/AN30/RPF13/SCK5/RF13 (io), 40 TDO/EBIA17/AN31/RPF12/RF12 (io), 41 EBIA11/AN7/ERXD0/AECRS/PMA11/RB12 (io), 42 AN8/ERXD1/AECOL/RB13 (io), 43 EBIA1/AN9/ERXD2/AETXD3/RPB14/SCK3/PMA1/RB14 (io), 44 EBIA0/AN10/ERXD3/AETXD2/RPB15/OCFB/PMA0/RB15 (io), 47 AN32/AETXD0/RPD14/RD14 (io), 48 AN33/AETXD1/RPD15/SCK6/RD15 (io), 49 OSCI/CLKI/RC12 (io), 50 OSCO/CLKO/RC15 (io), 54 D- (io) "USB D-", 55 D+ (io) "USB D+", 56 USBID/RPF3/RF3 (io), 57 EBIRDY3/RPF2/SDA3/RF2 (io), 58 EBIRDY2/RPF8/SCL3/RF8 (io), 59 ~{EBICS0}/SCL2/RA2 (io), 60 EBIRDY1/SDA2/RA3 (io), 61 EBIA14/PMCS1/PMA14/RA4 (io), 64 EBIA9/RPF4/SDA5/PMA9/RF4 (io), 65 EBIA8/RPF5/SCL5/PMA8/RF5 (io), 66 AETXCLK/RPA14/SCL1/RA14 (io), 67 AETXEN/RPA15/SDA1/RA15 (io), 68 EBIA15/RPD9/PMCS2/PMA15/RD9 (io), 69 RPD10/SCK4/RD10 (io), 70 EMDC/AEMDC/RPD11/RD11 (io), 71 EMDIO/AEMDIO/RPD0/RTCC/INT0/RD0 (io), 72 SOSCI/RPC13/RC13 (io), 73 SOSCO/RPC14/T1CK/RC14 (io), 76 RPD1/SCK1/RD1 (io), 77 EBID14/ETXEN/RPD2/PMD14/RD2 (io), 78 EBID15/ETXCLK/RPD3/PMD15/RD3 (io), 79 EBID12/ETXD2/RPD12/PMD12/RD12 (io), 80 EBID13/ETXD3/PMD13/RD13 (io), 81 ~{SQICS0}/RPD4/RD4 (io), 82 ~{SQICS1}/RPD5/RD5 (io), 85 EBID11/ETXD1/RPF0/PMD11/RF0 (io), 86 EBID10/ETXD0/RPF1/PMD10/RF1 (io), 87 EBID9/ETXERR/RPG1/PMD9/RG1 (io), 88 EBID8/RPG0/PMD8/RG0 (io), 89 TRCLK/SQICLK/RA6 (io), 90 TRD3/SQID3/RA7 (io), 91 EBID0/PMD0/RE0 (io), 94 EBID1/PMD1/RE1 (io), 95 TRD2/SQID2/RG14 (io), 96 TRD1/SQID1/RG12 (io), 97 TRD0/SQID0/RG13 (io), 98 EBID2/PMD2/RE2 (io), 99 EBID3/RPE3/PMD3/RE3 (io), 100 EBID4/AN18/PMD4/RE4 (io)
part B pins: 13 VSS (power) "Ground reference for logic, I/O pins, and USB. This pin  must be connected at all times.", 14 VDD (power) "Positive supply for peripheral logic and I/O pins. This  pin must be connected at all times.", 30 AVDD (power) "Positive supply for analog modules. This pin must be  connected at all times.", 31 AVSS (power) "Ground reference for analog modules. This pin must  be connected at all times", 36 VSS (power) "Ground reference for logic, I/O pins, and USB. This pin  must be connected at all times.", 37 VDD (power) "Positive supply for analog modules. This pin must be  connected at all times.", 45 VSS (power) "Ground reference for logic, I/O pins, and USB. This pin  must be connected at all times.", 46 VDD (power) "Positive supply for analog modules. This pin must be  connected at all times.", 51 VBUS (power) "USB bus power monitor", 52 VUSB3V3 (power) "USB internal transceiver supply. If the USB module is  not used, this pin must be connected to VSS.", 53 VSS (power) "Ground reference for logic, I/O pins, and USB. This pin  must be connected at all times.", 62 VDD (power) "Positive supply for analog modules. This pin must be  connected at all times.", 63 VSS (power) "Ground reference for logic, I/O pins, and USB. This pin  must be connected at all times.", 74 VDD (power) "Positive supply for analog modules. This pin must be  connected at all times.", 75 VSS (power) "Ground reference for logic, I/O pins, and USB. This pin  must be connected at all times.", 83 VDD (power) "Positive supply for analog modules. This pin must be  connected at all times.", 84 VSS (power) "Ground reference for logic, I/O pins, and USB. This pin  must be connected at all times.", 92 VSS (power) "Ground reference for logic, I/O pins, and USB. This pin  must be connected at all times.", 93 VDD (power) "Positive supply for analog modules. This pin must be  connected at all times."

## PIC32MZ2048ECM100-I/PF
designator U?
32-Bit Microcontroller with Audio and Graphics Interfaces, HS USB, Ethernet, and Advanced Analog, 2048 KB Program Memory, 78 I/O Pins, PMP, Industrial Temperature, 100-Pin TQFP (PF100), Tray; Manufacturer: Microchip; PartNumber: PIC32MZ2048ECM100-I/PF; VCC Range: 2.2 to 3.6 V; DatasheetVersion: Rev. B; PackageVersion: C04-110B, 12/2012; PackageReference: TQFP-PF100; PackageDescription: 100-Lead Thin Plastic Quad Flat Pack, 14 x 14 mm Body, 0.5 mm Pitch; Supplier 1: Digi-Key; Supplier Part Number 1: PIC32MZ2048ECM100-I/PF-ND; Packing: Tray; Mounting Technology: Surface Mount; ComponentLink1Description: Manufacturer URL; ComponentLink1URL: http://www.microchip.com/; ComponentLink2Description: Datasheet; ComponentLink2URL: http://ww1.microchip.com/downloads/en/DeviceDoc/60001191B.pdf; ComponentLink3Description: Package Specification; ComponentLink3URL: http://www.microchip.com/stellent/groups/techpub_sg/documents/packagingspec/en012702.pdf
footprint MCHP-TQFP-PF100_N (QFP, 100-Leads, Body 14x14mm, Pitch 0.5mm, IPC Medium Density)
footprint MCHP-TQFP-PF100_L (QFP, 100-Leads, Body 14x14mm, Pitch 0.5mm, IPC High Density)
footprint MCHP-TQFP-PF100_M (QFP, 100-Leads, Body 14x14mm, Pitch 0.5mm, IPC Low Density)
part A pins: 1 AN23/AERXERR/RG15 (io), 2 EBIA5/AN34/PMA5/RA5 (io), 3 EBID5/AN17/RPE5/PMD5/RE5 (io), 4 EBID6/AN16/PMD6/RE6 (io), 5 EBID7/AN15/PMD7/RE7 (io), 6 EBIA6/AN22/RPC1/PMA6/RC1 (io), 7 EBIA12/AN21/RPC2/PMA12/RC2 (io), 8 ~{EBIWE}/AN20/RPC3/PMWR/RC3 (io), 9 ~{EBIOE}/AN19/RPC4/PMRD/RC4 (io), 10 AN14/C1IND/ECOL/RPG6/SCK2/RG6 (io), 11 EBIA4/AN13/C1INC/ECRS/RPG7/SDA4/PMA4/RG7 (io), 12 EBIA3/AN12/C2IND/ERXDV/ECRSDV/AERXDV/AECRSDV/RPG8/SCL4/PMA3/RG8 (io), 15 ~{MCLR} (in) "Master Clear (Reset) input. This pin is an active-low  Reset to the device.", 16 EBIA2/AN11/C2INC/ERXCLK/EREFCLK/AERXCLK/AEREFCLK/RPG9/PMA2/RG9 (io), 17 TMS/EBIA16/AN24/RA0 (io), 18 AN25/AERXD0/RPE8/RE8 (io), 19 AN26/AERXD1/RPE9/RE9 (io), 20 AN45/C1INA/RPB5/RB5 (io), 21 AN4/C1INB/RB4 (io), 22 AN3/C2INA/RPB3/RB3 (io), 23 AN2/C2INB/RPB2/RB2 (io), 24 PGEC1/AN1/RPB1/RB1 (io), 25 PGED1/AN0/RPB0/RB0 (io), 26 PGEC2/AN46/RPB6/RB6 (io), 27 PGED2/AN47/RPB7/RB7 (io), 28 VREF-/CVREF-/AN27/AERXD2/RA9 (io), 29 VREF+/CVREF+/AN28/AERXD3/RA10 (io), 32 EBIA10/AN48/RPB8/PMA10/RB8 (io), 33 EBIA7/AN49/RPB9/PMA7/RB9 (io), 34 EBIA13/CVREFOUT/AN5/RPB10/PMA13/RB10 (io), 35 AN6/ERXERR/AETXERR/RB11 (io), 38 TCK/EBIA19/AN29/RA1 (io), 39 TDI/EBIA18/AN30/RPF13/SCK5/RF13 (io), 40 TDO/EBIA17/AN31/RPF12/RF12 (io), 41 EBIA11/AN7/ERXD0/AECRS/PMA11/RB12 (io), 42 AN8/ERXD1/AECOL/RB13 (io), 43 EBIA1/AN9/ERXD2/AETXD3/RPB14/SCK3/PMA1/RB14 (io), 44 EBIA0/AN10/ERXD3/AETXD2/RPB15/OCFB/PMA0/RB15 (io), 47 AN32/AETXD0/RPD14/RD14 (io), 48 AN33/AETXD1/RPD15/SCK6/RD15 (io), 49 OSCI/CLKI/RC12 (io), 50 OSCO/CLKO/RC15 (io), 54 D- (io) "USB D-", 55 D+ (io) "USB D+", 56 USBID/RPF3/RF3 (io), 57 EBIRDY3/RPF2/SDA3/RF2 (io), 58 EBIRDY2/RPF8/SCL3/RF8 (io), 59 ~{EBICS0}/SCL2/RA2 (io), 60 EBIRDY1/SDA2/RA3 (io), 61 EBIA14/PMCS1/PMA14/RA4 (io), 64 EBIA9/RPF4/SDA5/PMA9/RF4 (io), 65 EBIA8/RPF5/SCL5/PMA8/RF5 (io), 66 AETXCLK/RPA14/SCL1/RA14 (io), 67 AETXEN/RPA15/SDA1/RA15 (io), 68 EBIA15/RPD9/PMCS2/PMA15/RD9 (io), 69 RPD10/SCK4/RD10 (io), 70 EMDC/AEMDC/RPD11/RD11 (io), 71 EMDIO/AEMDIO/RPD0/RTCC/INT0/RD0 (io), 72 SOSCI/RPC13/RC13 (io), 73 SOSCO/RPC14/T1CK/RC14 (io), 76 RPD1/SCK1/RD1 (io), 77 EBID14/ETXEN/RPD2/PMD14/RD2 (io), 78 EBID15/ETXCLK/RPD3/PMD15/RD3 (io), 79 EBID12/ETXD2/RPD12/PMD12/RD12 (io), 80 EBID13/ETXD3/PMD13/RD13 (io), 81 ~{SQICS0}/RPD4/RD4 (io), 82 ~{SQICS1}/RPD5/RD5 (io), 85 EBID11/ETXD1/RPF0/PMD11/RF0 (io), 86 EBID10/ETXD0/RPF1/PMD10/RF1 (io), 87 EBID9/ETXERR/RPG1/PMD9/RG1 (io), 88 EBID8/RPG0/PMD8/RG0 (io), 89 TRCLK/SQICLK/RA6 (io), 90 TRD3/SQID3/RA7 (io), 91 EBID0/PMD0/RE0 (io), 94 EBID1/PMD1/RE1 (io), 95 TRD2/SQID2/RG14 (io), 96 TRD1/SQID1/RG12 (io), 97 TRD0/SQID0/RG13 (io), 98 EBID2/PMD2/RE2 (io), 99 EBID3/RPE3/PMD3/RE3 (io), 100 EBID4/AN18/PMD4/RE4 (io)
part B pins: 13 VSS (power) "Ground reference for logic, I/O pins, and USB. This pin  must be connected at all times.", 14 VDD (power) "Positive supply for peripheral logic and I/O pins. This  pin must be connected at all times.", 30 AVDD (power) "Positive supply for analog modules. This pin must be  connected at all times.", 31 AVSS (power) "Ground reference for analog modules. This pin must  be connected at all times", 36 VSS (power) "Ground reference for logic, I/O pins, and USB. This pin  must be connected at all times.", 37 VDD (power) "Positive supply for analog modules. This pin must be  connected at all times.", 45 VSS (power) "Ground reference for logic, I/O pins, and USB. This pin  must be connected at all times.", 46 VDD (power) "Positive supply for analog modules. This pin must be  connected at all times.", 51 VBUS (power) "USB bus power monitor", 52 VUSB3V3 (power) "USB internal transceiver supply. If the USB module is  not used, this pin must be connected to VSS.", 53 VSS (power) "Ground reference for logic, I/O pins, and USB. This pin  must be connected at all times.", 62 VDD (power) "Positive supply for analog modules. This pin must be  connected at all times.", 63 VSS (power) "Ground reference for logic, I/O pins, and USB. This pin  must be connected at all times.", 74 VDD (power) "Positive supply for analog modules. This pin must be  connected at all times.", 75 VSS (power) "Ground reference for logic, I/O pins, and USB. This pin  must be connected at all times.", 83 VDD (power) "Positive supply for analog modules. This pin must be  connected at all times.", 84 VSS (power) "Ground reference for logic, I/O pins, and USB. This pin  must be connected at all times.", 92 VSS (power) "Ground reference for logic, I/O pins, and USB. This pin  must be connected at all times.", 93 VDD (power) "Positive supply for analog modules. This pin must be  connected at all times."

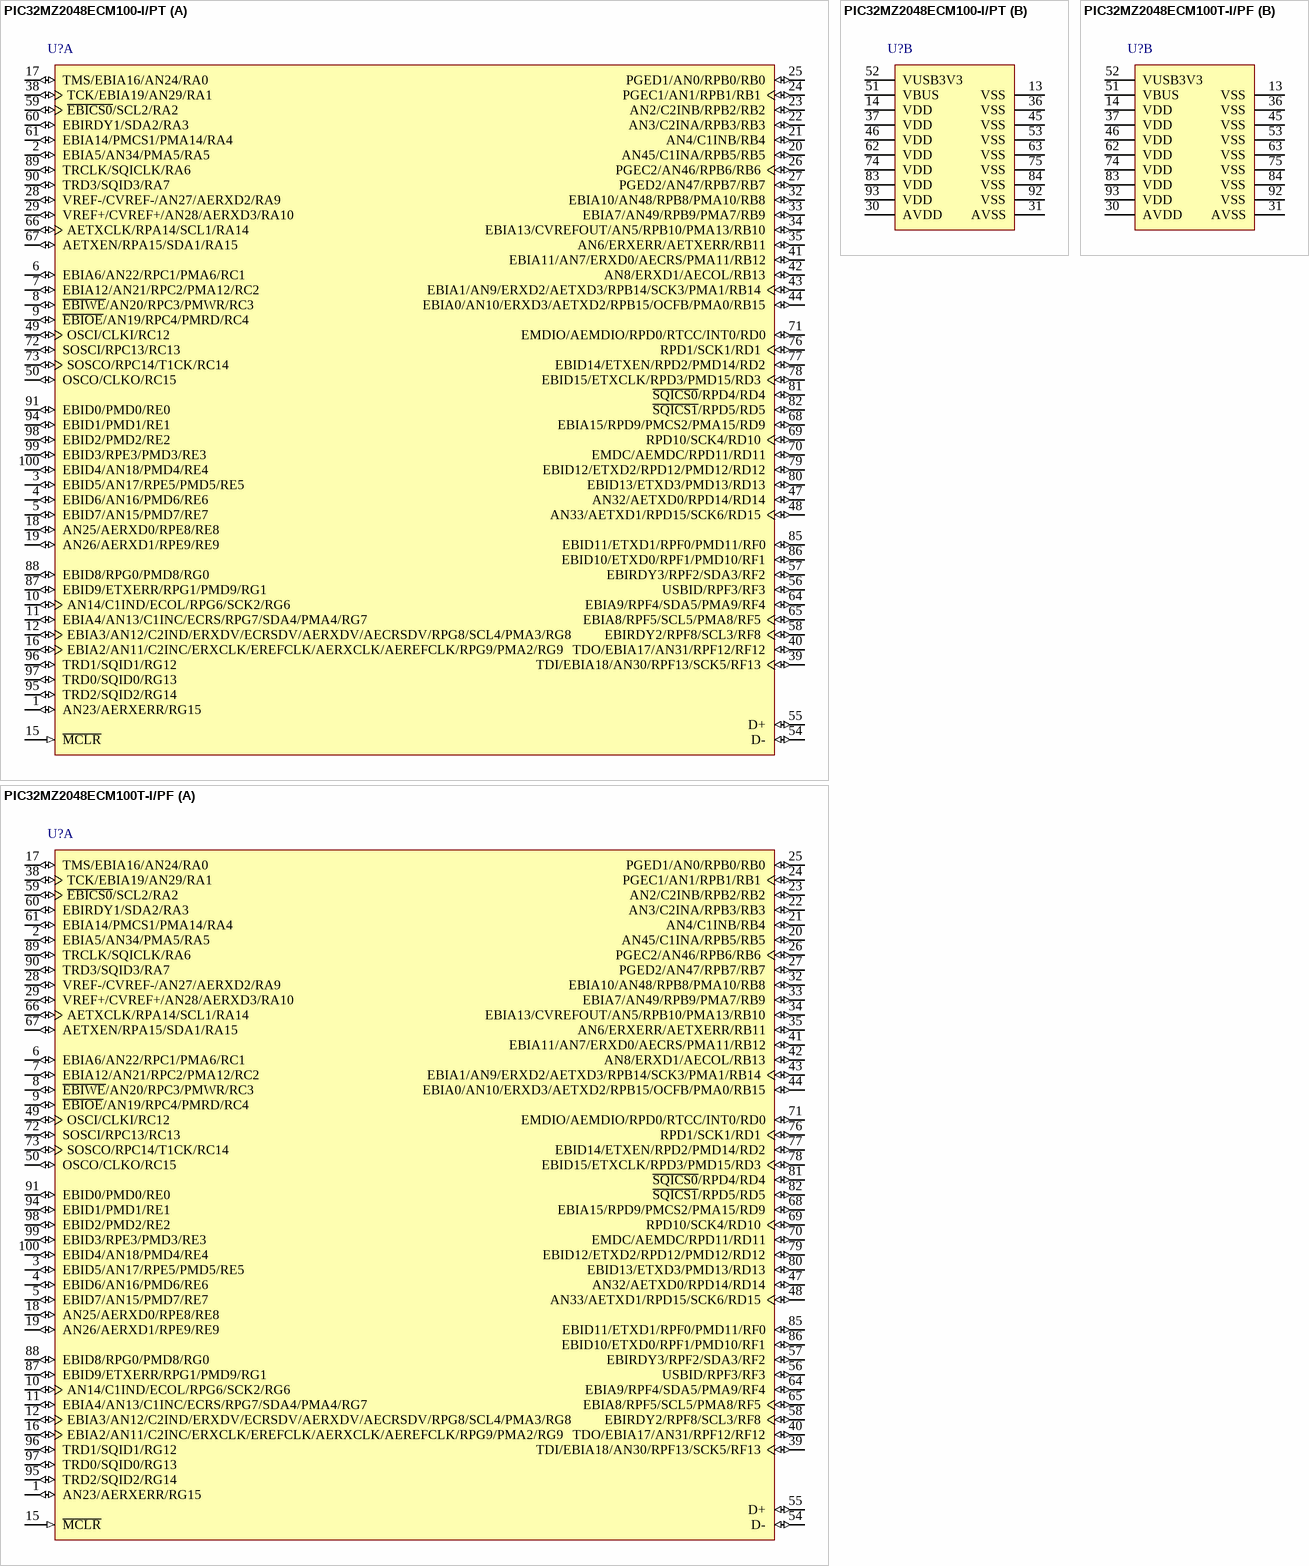
[diagram p47: symbols PIC32MZ2048ECM100-I/PT to PIC32MZ2048ECM100T-I/PF]

## PIC32MZ2048ECM100-I/PT
designator U?
32-Bit Microcontroller with Audio and Graphics Interfaces, HS USB, Ethernet, and Advanced Analog, 2048 KB Program Memory, 78 I/O Pins, PMP, Industrial Temperature, 100-Pin TQFP (PT100), Tray; Manufacturer: Microchip; PartNumber: PIC32MZ2048ECM100-I/PT; VCC Range: 2.2 to 3.6 V; DatasheetVersion: Rev. B; PackageVersion: C04-100B, 12/2012; PackageReference: TQFP-PT100; PackageDescription: 100-Lead Plastic Thin Quad Flatpack, 12 x 12 mm Body, 0.4 mm Pitch; Supplier 1: Digi-Key; Supplier Part Number 1: PIC32MZ2048ECM100-I/PT-ND; Packing: Tray; Mounting Technology: Surface Mount; ComponentLink1Description: Manufacturer URL; ComponentLink1URL: http://www.microchip.com/; ComponentLink2Description: Datasheet; ComponentLink2URL: http://ww1.microchip.com/downloads/en/DeviceDoc/60001191B.pdf; ComponentLink3Description: Package Specification; ComponentLink3URL: http://www.microchip.com/stellent/groups/techpub_sg/documents/packagingspec/en012702.pdf
footprint MCHP-TQFP-PT100_N (QFP, 100-Leads, Body 12x12mm, Pitch 0.4mm, IPC Medium Density)
footprint MCHP-TQFP-PT100_L (QFP, 100-Leads, Body 12x12mm, Pitch 0.4mm, IPC High Density)
footprint MCHP-TQFP-PT100_M (TQFP, 100-Leads, Body 12x12mm, Pitch 0.4mm, IPC Low Density)
part A pins: 1 AN23/AERXERR/RG15 (io), 2 EBIA5/AN34/PMA5/RA5 (io), 3 EBID5/AN17/RPE5/PMD5/RE5 (io), 4 EBID6/AN16/PMD6/RE6 (io), 5 EBID7/AN15/PMD7/RE7 (io), 6 EBIA6/AN22/RPC1/PMA6/RC1 (io), 7 EBIA12/AN21/RPC2/PMA12/RC2 (io), 8 ~{EBIWE}/AN20/RPC3/PMWR/RC3 (io), 9 ~{EBIOE}/AN19/RPC4/PMRD/RC4 (io), 10 AN14/C1IND/ECOL/RPG6/SCK2/RG6 (io), 11 EBIA4/AN13/C1INC/ECRS/RPG7/SDA4/PMA4/RG7 (io), 12 EBIA3/AN12/C2IND/ERXDV/ECRSDV/AERXDV/AECRSDV/RPG8/SCL4/PMA3/RG8 (io), 15 ~{MCLR} (in) "Master Clear (Reset) input. This pin is an active-low  Reset to the device.", 16 EBIA2/AN11/C2INC/ERXCLK/EREFCLK/AERXCLK/AEREFCLK/RPG9/PMA2/RG9 (io), 17 TMS/EBIA16/AN24/RA0 (io), 18 AN25/AERXD0/RPE8/RE8 (io), 19 AN26/AERXD1/RPE9/RE9 (io), 20 AN45/C1INA/RPB5/RB5 (io), 21 AN4/C1INB/RB4 (io), 22 AN3/C2INA/RPB3/RB3 (io), 23 AN2/C2INB/RPB2/RB2 (io), 24 PGEC1/AN1/RPB1/RB1 (io), 25 PGED1/AN0/RPB0/RB0 (io), 26 PGEC2/AN46/RPB6/RB6 (io), 27 PGED2/AN47/RPB7/RB7 (io), 28 VREF-/CVREF-/AN27/AERXD2/RA9 (io), 29 VREF+/CVREF+/AN28/AERXD3/RA10 (io), 32 EBIA10/AN48/RPB8/PMA10/RB8 (io), 33 EBIA7/AN49/RPB9/PMA7/RB9 (io), 34 EBIA13/CVREFOUT/AN5/RPB10/PMA13/RB10 (io), 35 AN6/ERXERR/AETXERR/RB11 (io), 38 TCK/EBIA19/AN29/RA1 (io), 39 TDI/EBIA18/AN30/RPF13/SCK5/RF13 (io), 40 TDO/EBIA17/AN31/RPF12/RF12 (io), 41 EBIA11/AN7/ERXD0/AECRS/PMA11/RB12 (io), 42 AN8/ERXD1/AECOL/RB13 (io), 43 EBIA1/AN9/ERXD2/AETXD3/RPB14/SCK3/PMA1/RB14 (io), 44 EBIA0/AN10/ERXD3/AETXD2/RPB15/OCFB/PMA0/RB15 (io), 47 AN32/AETXD0/RPD14/RD14 (io), 48 AN33/AETXD1/RPD15/SCK6/RD15 (io), 49 OSCI/CLKI/RC12 (io), 50 OSCO/CLKO/RC15 (io), 54 D- (io) "USB D-", 55 D+ (io) "USB D+", 56 USBID/RPF3/RF3 (io), 57 EBIRDY3/RPF2/SDA3/RF2 (io), 58 EBIRDY2/RPF8/SCL3/RF8 (io), 59 ~{EBICS0}/SCL2/RA2 (io), 60 EBIRDY1/SDA2/RA3 (io), 61 EBIA14/PMCS1/PMA14/RA4 (io), 64 EBIA9/RPF4/SDA5/PMA9/RF4 (io), 65 EBIA8/RPF5/SCL5/PMA8/RF5 (io), 66 AETXCLK/RPA14/SCL1/RA14 (io), 67 AETXEN/RPA15/SDA1/RA15 (io), 68 EBIA15/RPD9/PMCS2/PMA15/RD9 (io), 69 RPD10/SCK4/RD10 (io), 70 EMDC/AEMDC/RPD11/RD11 (io), 71 EMDIO/AEMDIO/RPD0/RTCC/INT0/RD0 (io), 72 SOSCI/RPC13/RC13 (io), 73 SOSCO/RPC14/T1CK/RC14 (io), 76 RPD1/SCK1/RD1 (io), 77 EBID14/ETXEN/RPD2/PMD14/RD2 (io), 78 EBID15/ETXCLK/RPD3/PMD15/RD3 (io), 79 EBID12/ETXD2/RPD12/PMD12/RD12 (io), 80 EBID13/ETXD3/PMD13/RD13 (io), 81 ~{SQICS0}/RPD4/RD4 (io), 82 ~{SQICS1}/RPD5/RD5 (io), 85 EBID11/ETXD1/RPF0/PMD11/RF0 (io), 86 EBID10/ETXD0/RPF1/PMD10/RF1 (io), 87 EBID9/ETXERR/RPG1/PMD9/RG1 (io), 88 EBID8/RPG0/PMD8/RG0 (io), 89 TRCLK/SQICLK/RA6 (io), 90 TRD3/SQID3/RA7 (io), 91 EBID0/PMD0/RE0 (io), 94 EBID1/PMD1/RE1 (io), 95 TRD2/SQID2/RG14 (io), 96 TRD1/SQID1/RG12 (io), 97 TRD0/SQID0/RG13 (io), 98 EBID2/PMD2/RE2 (io), 99 EBID3/RPE3/PMD3/RE3 (io), 100 EBID4/AN18/PMD4/RE4 (io)
part B pins: 13 VSS (power) "Ground reference for logic, I/O pins, and USB. This pin  must be connected at all times.", 14 VDD (power) "Positive supply for peripheral logic and I/O pins. This  pin must be connected at all times.", 30 AVDD (power) "Positive supply for analog modules. This pin must be  connected at all times.", 31 AVSS (power) "Ground reference for analog modules. This pin must  be connected at all times", 36 VSS (power) "Ground reference for logic, I/O pins, and USB. This pin  must be connected at all times.", 37 VDD (power) "Positive supply for analog modules. This pin must be  connected at all times.", 45 VSS (power) "Ground reference for logic, I/O pins, and USB. This pin  must be connected at all times.", 46 VDD (power) "Positive supply for analog modules. This pin must be  connected at all times.", 51 VBUS (power) "USB bus power monitor", 52 VUSB3V3 (power) "USB internal transceiver supply. If the USB module is  not used, this pin must be connected to VSS.", 53 VSS (power) "Ground reference for logic, I/O pins, and USB. This pin  must be connected at all times.", 62 VDD (power) "Positive supply for analog modules. This pin must be  connected at all times.", 63 VSS (power) "Ground reference for logic, I/O pins, and USB. This pin  must be connected at all times.", 74 VDD (power) "Positive supply for analog modules. This pin must be  connected at all times.", 75 VSS (power) "Ground reference for logic, I/O pins, and USB. This pin  must be connected at all times.", 83 VDD (power) "Positive supply for analog modules. This pin must be  connected at all times.", 84 VSS (power) "Ground reference for logic, I/O pins, and USB. This pin  must be connected at all times.", 92 VSS (power) "Ground reference for logic, I/O pins, and USB. This pin  must be connected at all times.", 93 VDD (power) "Positive supply for analog modules. This pin must be  connected at all times."

## PIC32MZ2048ECM100T-I/PF
designator U?
32-Bit Microcontroller with Audio and Graphics Interfaces, HS USB, Ethernet, and Advanced Analog, 2048 KB Program Memory, 78 I/O Pins, PMP, Industrial Temperature, 100-Pin TQFP (PF100), Tape and Reel; Manufacturer: Microchip; PartNumber: PIC32MZ2048ECM100T-I/PF; VCC Range: 2.2 to 3.6 V; DatasheetVersion: Rev. B; PackageVersion: C04-110B, 12/2012; PackageReference: TQFP-PF100; PackageDescription: 100-Lead Thin Plastic Quad Flat Pack, 14 x 14 mm Body, 0.5 mm Pitch; Supplier 1: Newark; Supplier Part Number 1: 17X9378; Packing: Tape and Reel; Mounting Technology: Surface Mount; ComponentLink1Description: Manufacturer URL; ComponentLink1URL: http://www.microchip.com/; ComponentLink2Description: Datasheet; ComponentLink2URL: http://ww1.microchip.com/downloads/en/DeviceDoc/60001191B.pdf; ComponentLink3Description: Package Specification; ComponentLink3URL: http://www.microchip.com/stellent/groups/techpub_sg/documents/packagingspec/en012702.pdf
footprint MCHP-TQFP-PF100_N (QFP, 100-Leads, Body 14x14mm, Pitch 0.5mm, IPC Medium Density)
footprint MCHP-TQFP-PF100_L (QFP, 100-Leads, Body 14x14mm, Pitch 0.5mm, IPC High Density)
footprint MCHP-TQFP-PF100_M (QFP, 100-Leads, Body 14x14mm, Pitch 0.5mm, IPC Low Density)
part A pins: 1 AN23/AERXERR/RG15 (io), 2 EBIA5/AN34/PMA5/RA5 (io), 3 EBID5/AN17/RPE5/PMD5/RE5 (io), 4 EBID6/AN16/PMD6/RE6 (io), 5 EBID7/AN15/PMD7/RE7 (io), 6 EBIA6/AN22/RPC1/PMA6/RC1 (io), 7 EBIA12/AN21/RPC2/PMA12/RC2 (io), 8 ~{EBIWE}/AN20/RPC3/PMWR/RC3 (io), 9 ~{EBIOE}/AN19/RPC4/PMRD/RC4 (io), 10 AN14/C1IND/ECOL/RPG6/SCK2/RG6 (io), 11 EBIA4/AN13/C1INC/ECRS/RPG7/SDA4/PMA4/RG7 (io), 12 EBIA3/AN12/C2IND/ERXDV/ECRSDV/AERXDV/AECRSDV/RPG8/SCL4/PMA3/RG8 (io), 15 ~{MCLR} (in) "Master Clear (Reset) input. This pin is an active-low  Reset to the device.", 16 EBIA2/AN11/C2INC/ERXCLK/EREFCLK/AERXCLK/AEREFCLK/RPG9/PMA2/RG9 (io), 17 TMS/EBIA16/AN24/RA0 (io), 18 AN25/AERXD0/RPE8/RE8 (io), 19 AN26/AERXD1/RPE9/RE9 (io), 20 AN45/C1INA/RPB5/RB5 (io), 21 AN4/C1INB/RB4 (io), 22 AN3/C2INA/RPB3/RB3 (io), 23 AN2/C2INB/RPB2/RB2 (io), 24 PGEC1/AN1/RPB1/RB1 (io), 25 PGED1/AN0/RPB0/RB0 (io), 26 PGEC2/AN46/RPB6/RB6 (io), 27 PGED2/AN47/RPB7/RB7 (io), 28 VREF-/CVREF-/AN27/AERXD2/RA9 (io), 29 VREF+/CVREF+/AN28/AERXD3/RA10 (io), 32 EBIA10/AN48/RPB8/PMA10/RB8 (io), 33 EBIA7/AN49/RPB9/PMA7/RB9 (io), 34 EBIA13/CVREFOUT/AN5/RPB10/PMA13/RB10 (io), 35 AN6/ERXERR/AETXERR/RB11 (io), 38 TCK/EBIA19/AN29/RA1 (io), 39 TDI/EBIA18/AN30/RPF13/SCK5/RF13 (io), 40 TDO/EBIA17/AN31/RPF12/RF12 (io), 41 EBIA11/AN7/ERXD0/AECRS/PMA11/RB12 (io), 42 AN8/ERXD1/AECOL/RB13 (io), 43 EBIA1/AN9/ERXD2/AETXD3/RPB14/SCK3/PMA1/RB14 (io), 44 EBIA0/AN10/ERXD3/AETXD2/RPB15/OCFB/PMA0/RB15 (io), 47 AN32/AETXD0/RPD14/RD14 (io), 48 AN33/AETXD1/RPD15/SCK6/RD15 (io), 49 OSCI/CLKI/RC12 (io), 50 OSCO/CLKO/RC15 (io), 54 D- (io) "USB D-", 55 D+ (io) "USB D+", 56 USBID/RPF3/RF3 (io), 57 EBIRDY3/RPF2/SDA3/RF2 (io), 58 EBIRDY2/RPF8/SCL3/RF8 (io), 59 ~{EBICS0}/SCL2/RA2 (io), 60 EBIRDY1/SDA2/RA3 (io), 61 EBIA14/PMCS1/PMA14/RA4 (io), 64 EBIA9/RPF4/SDA5/PMA9/RF4 (io), 65 EBIA8/RPF5/SCL5/PMA8/RF5 (io), 66 AETXCLK/RPA14/SCL1/RA14 (io), 67 AETXEN/RPA15/SDA1/RA15 (io), 68 EBIA15/RPD9/PMCS2/PMA15/RD9 (io), 69 RPD10/SCK4/RD10 (io), 70 EMDC/AEMDC/RPD11/RD11 (io), 71 EMDIO/AEMDIO/RPD0/RTCC/INT0/RD0 (io), 72 SOSCI/RPC13/RC13 (io), 73 SOSCO/RPC14/T1CK/RC14 (io), 76 RPD1/SCK1/RD1 (io), 77 EBID14/ETXEN/RPD2/PMD14/RD2 (io), 78 EBID15/ETXCLK/RPD3/PMD15/RD3 (io), 79 EBID12/ETXD2/RPD12/PMD12/RD12 (io), 80 EBID13/ETXD3/PMD13/RD13 (io), 81 ~{SQICS0}/RPD4/RD4 (io), 82 ~{SQICS1}/RPD5/RD5 (io), 85 EBID11/ETXD1/RPF0/PMD11/RF0 (io), 86 EBID10/ETXD0/RPF1/PMD10/RF1 (io), 87 EBID9/ETXERR/RPG1/PMD9/RG1 (io), 88 EBID8/RPG0/PMD8/RG0 (io), 89 TRCLK/SQICLK/RA6 (io), 90 TRD3/SQID3/RA7 (io), 91 EBID0/PMD0/RE0 (io), 94 EBID1/PMD1/RE1 (io), 95 TRD2/SQID2/RG14 (io), 96 TRD1/SQID1/RG12 (io), 97 TRD0/SQID0/RG13 (io), 98 EBID2/PMD2/RE2 (io), 99 EBID3/RPE3/PMD3/RE3 (io), 100 EBID4/AN18/PMD4/RE4 (io)
part B pins: 13 VSS (power) "Ground reference for logic, I/O pins, and USB. This pin  must be connected at all times.", 14 VDD (power) "Positive supply for peripheral logic and I/O pins. This  pin must be connected at all times.", 30 AVDD (power) "Positive supply for analog modules. This pin must be  connected at all times.", 31 AVSS (power) "Ground reference for analog modules. This pin must  be connected at all times", 36 VSS (power) "Ground reference for logic, I/O pins, and USB. This pin  must be connected at all times.", 37 VDD (power) "Positive supply for analog modules. This pin must be  connected at all times.", 45 VSS (power) "Ground reference for logic, I/O pins, and USB. This pin  must be connected at all times.", 46 VDD (power) "Positive supply for analog modules. This pin must be  connected at all times.", 51 VBUS (power) "USB bus power monitor", 52 VUSB3V3 (power) "USB internal transceiver supply. If the USB module is  not used, this pin must be connected to VSS.", 53 VSS (power) "Ground reference for logic, I/O pins, and USB. This pin  must be connected at all times.", 62 VDD (power) "Positive supply for analog modules. This pin must be  connected at all times.", 63 VSS (power) "Ground reference for logic, I/O pins, and USB. This pin  must be connected at all times.", 74 VDD (power) "Positive supply for analog modules. This pin must be  connected at all times.", 75 VSS (power) "Ground reference for logic, I/O pins, and USB. This pin  must be connected at all times.", 83 VDD (power) "Positive supply for analog modules. This pin must be  connected at all times.", 84 VSS (power) "Ground reference for logic, I/O pins, and USB. This pin  must be connected at all times.", 92 VSS (power) "Ground reference for logic, I/O pins, and USB. This pin  must be connected at all times.", 93 VDD (power) "Positive supply for analog modules. This pin must be  connected at all times."

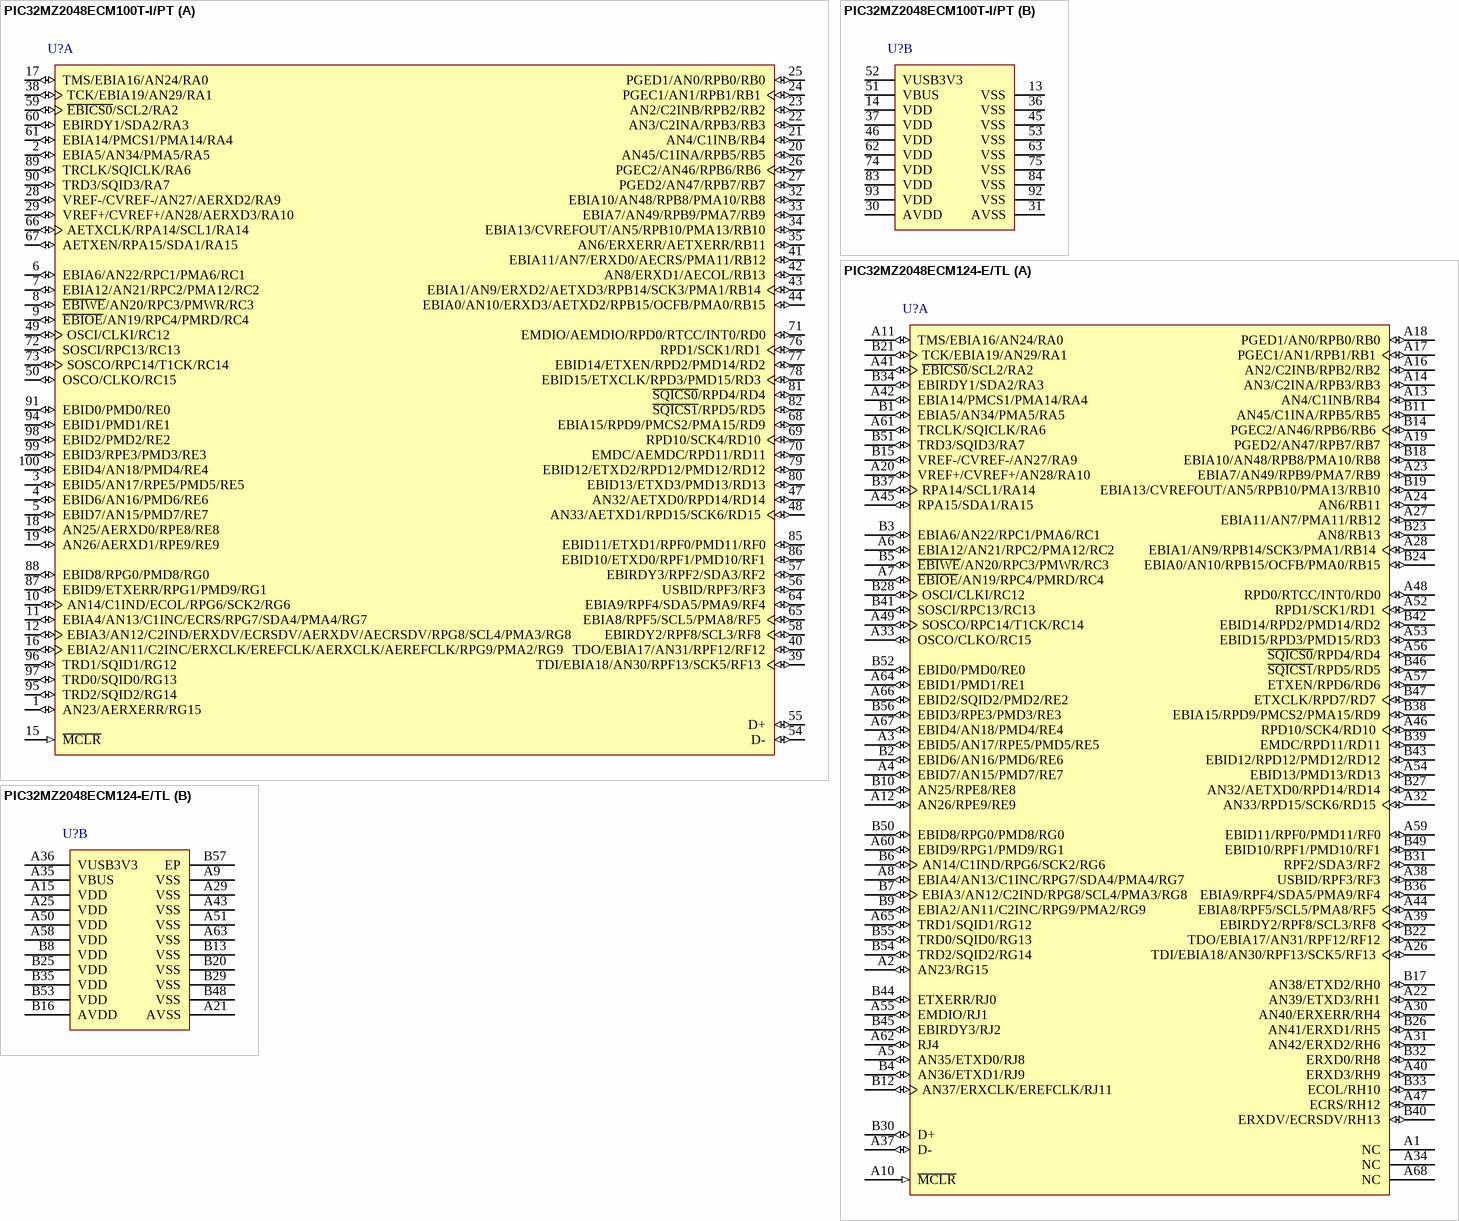
[diagram p48: symbols PIC32MZ2048ECM100T-I/PT to PIC32MZ2048ECM124-E/TL]